# EAGLE library part ATSAMD21EXXA-M (library johnmamish-atmel)
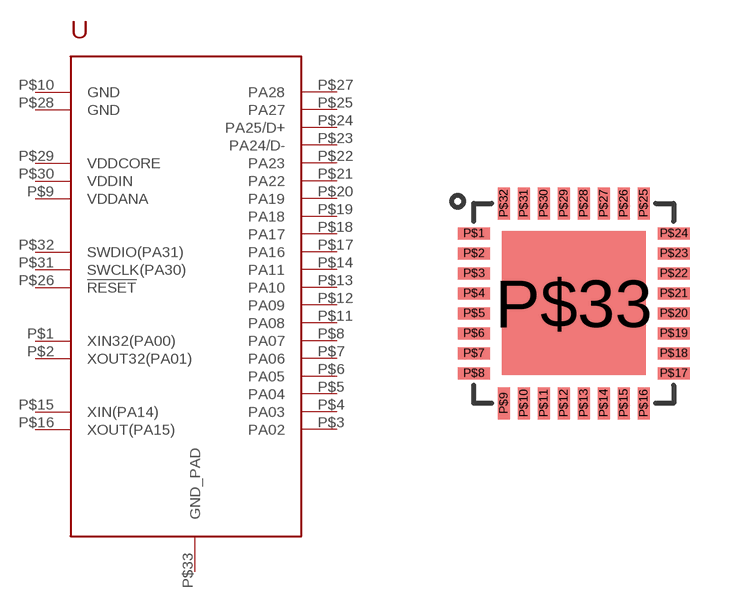
[diagram p2: symbol with the pads of ATMEL_5X5_QFN_32; footprint ATMEL_5X5_QFN_32]

Designator prefix -

## ATSAMD21EXXA-M  [ATMEL_5X5_QFN_32]
P$1  XIN32(PA00)
P$2  XOUT32(PA01)
P$3  PA02
P$4  PA03
P$5  PA04
P$6  PA05
P$7  PA06
P$8  PA07
P$9  VDDANA
P$10  GND
P$11  PA08
P$12  PA09
P$13  PA10
P$14  PA11
P$15  XIN(PA14)
P$16  XOUT(PA15)
P$17  PA16
P$18  PA17
P$19  PA18
P$20  PA19
P$21  PA22
P$22  PA23
P$23  PA24/D-
P$24  PA25/D+
P$25  PA27
P$26  !RESET!
P$27  PA28
P$28  GND
P$29  VDDCORE
P$30  VDDIN
P$31  SWCLK(PA30)
P$32  SWDIO(PA31)
P$33  GND_PAD

## Footprint ATMEL_5X5_QFN_32 (pad centres in mm)
smd 0.8 x 0.3: P$1 0,0; P$2 0,-0.5; P$3 0,-1; P$4 0,-1.5; P$5 0,-2; P$6 0,-2.5; P$7 0,-3; P$8 0,-3.5; P$17 5,-3.5; P$18 5,-3; P$19 5,-2.5; P$20 5,-2; P$21 5,-1.5; P$22 5,-1; P$23 5,-0.5; P$24 5,0
smd 0.3 x 0.8: P$9 0.75,-4.25; P$10 1.25,-4.25; P$11 1.75,-4.25; P$12 2.25,-4.25; P$13 2.75,-4.25; P$14 3.25,-4.25; P$15 3.75,-4.25; P$16 4.25,-4.25; P$25 4.25,0.75; P$26 3.75,0.75; P$27 3.25,0.75; P$28 2.75,0.75; P$29 2.25,0.75; P$30 1.75,0.75; P$31 1.25,0.75; P$32 0.75,0.75
smd 3.6 x 3.6: P$33 2.5,-1.75